# Altium schematic symbol library SL_Capacitors_Electrolytic_SMT.SchLib: 2 symbols
Pins are listed as number, name and electrical type; pins without a type are passive.

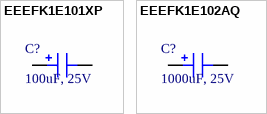
[diagram p0: symbols EEEFK1E101XP to EEEFK1E102AQ]

## EEEFK1E101XP
designator C?, comment 100uF, 25V
Capacitor Polarised, 100uF, 25V; Manufacturer_Name: Panasonic; Manufacturer_Part_Number: EEEFK1E101XP; Datasheet Link: http://industrial.panasonic.com/cdbs/www-data/pdf/RDE0000/ABA0000C1181.pdf; Height: 7.8mm
footprint EEE0JA331XP
pins: 1, 2

## EEEFK1E102AQ
designator C?, comment 1000uF, 25V
Capacitor Polarised, 1000uF, 25V; Manufacturer_Name: Panasonic; Manufacturer_Part_Number: EEEFK1E102AQ; Datasheet Link: http://industrial.panasonic.com/cdbs/www-data/pdf/RDE0000/ABA0000C1178.pdf; Height: 15mm
footprint EEEFK0J332AQ
pins: 1, 2